# EAGLE library part 615008140621 (library Wurth_Connectors_WR-MJ)
WR-MJ Modular Jack Horizontal Shielded w. EMI Panel Finger 8P8C Tab Up KIND PROPERTIES Quality Class:500 Mating cycles General Information Operating Temperature:-40 up to +85 °C Compliance:RoHS Electrical Properties IR1:1.5A Working Voltage:120V (AC) Withstanding Voltage:1000V (AC) Contact Resistance:20mΩ RISO:500 MΩ Material Properties Insulator MateriaL:PBT Insulator Flammability Rating:UL94 V-0 Color:Black Contact Material:Copper Alloy Contact Plating:Selective Gold Contact Type:Stamped Shielding Material:Bronze Shielding Plating:Nickel Packaging Properties Packaging:Tray <https://www.we-online.com/catalog/media/o60639v209%20Family_WR-MJ_Modular_Jack_Tab_Up_615008140621.jpg> Details see: https://www.we-online.com/catalog/en/MJ_HORIZONTAL_SHIELDED_W_EMI_PANEL_FINGER_8P8C_TAB_UP/ Updated by Yingchun,Shan 2019-11-26 2019 (C) Würth Elektronik
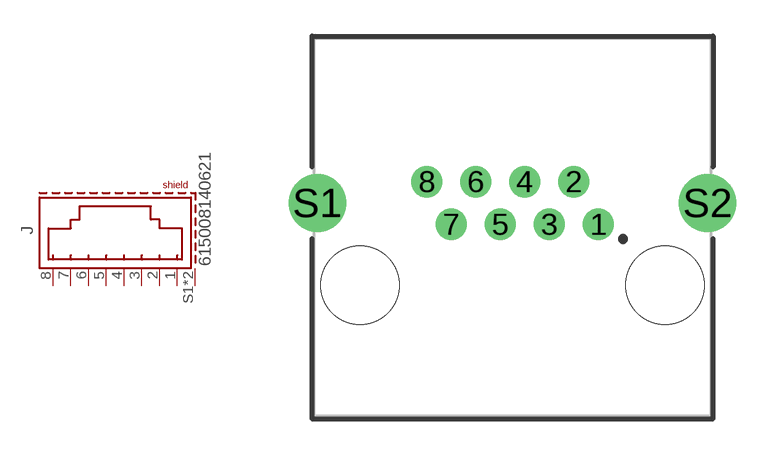
[diagram p32: symbol with the pads of 615008140621; footprint 615008140621]

Designator prefix J

## 615008140621 (DATASHEET-URL: https://www.we-online.com/redexpert/spec/615008140621?ae; MOUNT: THT; PART-NUMBER: 615008140621; TYPE: Horizontal; VALUE: 615008140621; XPXC: 8P8C)  [615008140621]
1  1  pas
2  2  pas
3  3  pas
4  4  pas
5  5  pas
6  6  pas
7  7  pas
8  8  pas
S1  SHIELD  pas
S2  SHIELD  pas

## Footprint 615008140621 (pad centres in mm)
WR-MJ Modular Jack Horizontal Shielded w. EMI Panel Finger 8P8C Tab Up
drill 0.8: 1 3.57,0.125; 2 2.55,1.905; 3 1.53,0.125; 4 0.51,1.905; 5 -0.51,0.125; 6 -1.53,1.905; 7 -2.55,0.125; 8 -3.57,1.905
drill 1.6: S1 -8.125,1.015; S2 8.125,1.015
hole 3.25 at -6.35,-2.415
hole 3.25 at 6.35,-2.415